# Altium schematic symbol library C091 connector.SchLib: 1 symbol
Pins are listed as number, name and electrical type; pins without a type are passive.

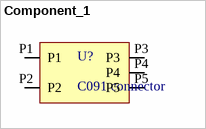
[diagram p0: symbol Component_1]

## Component_1
designator U?, comment C091 connector
5 pin connector
footprint C091 Connector
pins: P1 (io), P2 (io), P3 (io), P4 (io), P5 (io)